# EAGLE library part BTS50010-1TAD (library BTS50010-1TAD)
BTS50010-1TAD TO127P1500X450-7_8N-V1 Smart High-Side Power Switch, One channel device
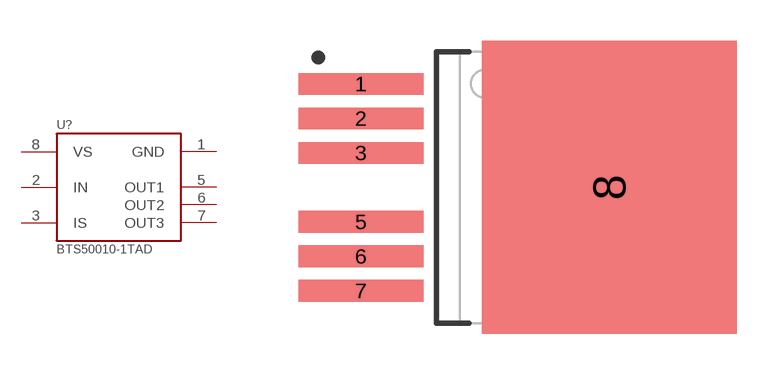
[diagram p0: symbol with the pads of TO127P1500X450-7_8N-V1; footprint TO127P1500X450-7_8N-V1]

Designator prefix U?

## BTS50010-1TAD  [TO127P1500X450-7_8N-V1]
1  GND  pwr
2  IN  in
3  IS  out
5  OUT1  out
6  OUT2  out
7  OUT3  out
8  VS  pwr

## Footprint TO127P1500X450-7_8N-V1 (pad centres in mm)
Original Name<TO127P1500X450-7_8N-V1 Max Component Height - 4.5mm
smd 4.6 x 0.8: 1 -4.575,3.81; 2 -4.575,2.54; 3 -4.575,1.27; 5 -4.575,-1.27; 6 -4.575,-2.54; 7 -4.575,-3.81
smd 9.4 x 10.8: 8 4.575,0